# Altium footprint library 7Robot.PcbLib: 36 footprints (part 3 of 3)
Each footprint in its own frame and in the unit in brackets; x right, y up, seen from the top. Pads: shape width x height; smd on the part's side, far side on the other; paste and mask are expansions set on the pad; w line width, h text height; cw(c..) or ccw(c..) is an arc to the next point about the centre after c.
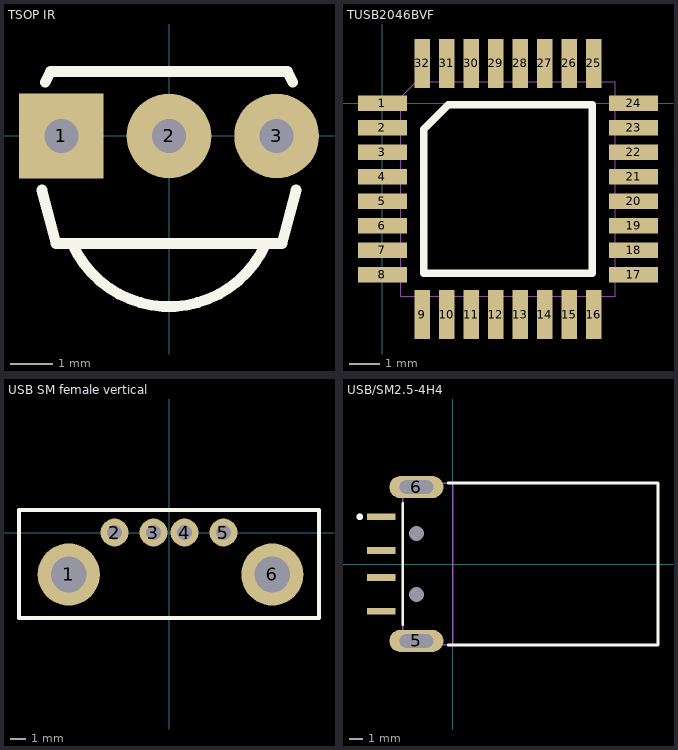
[diagram p2: the footprints below, top view; thin cyan lines are the x and y axes]

## TSOP IR [mm] "TSOP IR Receiver, Vishay"
height 10
pads (3):
  rect 2x2 hole 0.8: 1(-2.54,0)
  round 2 hole 0.8: 2(0,0) 3(2.54,0)
Top Overlay:
  lines w0.254: -3,-1.276 -2.667,-2.54 2.667,-2.54 3,-1.276 ; -2.921,1.27 -2.794,1.524 2.794,1.524 2.921,1.27 ; -2.286,-2.54 ccw(c0,-1.524) 2.286,-2.54
3D body: height 8.45, standoff -2.5, extent -3,-4.076 3,1.524

## TUSB2046BVF [mil] "TI 4-Port USB Hub"
height 55.12
pads (32):
  rect 63x19.7 smd: 1(0,0) 2(0,-31.5) 3(0,-63) 4(0,-94.5) 5(0,-125.9) 6(0,-157.4) 7(0,-188.9) 8(0,-220.4) 17(322.8,-220.4) 18(322.8,-188.9) 19(322.8,-157.4) 20(322.8,-125.9) 21(322.8,-94.5) 22(322.8,-63) 23(322.8,-31.5) 24(322.8,0)
  rect 19.7x63 smd: 9(51.2,-271.6) 10(82.7,-271.6) 11(114.2,-271.6) 12(145.7,-271.6) 13(177.1,-271.6) 14(208.6,-271.6) 15(240.1,-271.6) 16(271.6,-271.6) 25(271.6,51.2) 26(240.1,51.2) 27(208.6,51.2) 28(177.1,51.2) 29(145.7,51.2) 30(114.2,51.2) 31(82.7,51.2) 32(51.2,51.2)
Top Overlay:
  lines w10: 53.1,-218.5 53.1,-33.5 84.7,-1.9 269.7,-1.9 269.7,-218.5 53.1,-218.5
Mechanical 1:
  lines w0.4: 23.6,-248 23.6,7.9 43.3,27.6 299.2,27.6 299.2,-248 23.6,-248
3D body: height 59.06, standoff 0.79, extent -15.76,-287.36 338.56,66.96

## USB SM female vertical [mm] "USB SM female vertical"
height 13.6
pads (6):
  round 4 hole 2.3: 1(-6.45,-2.7) 6(6.65,-2.7)
  round 1.8 hole 0.95: 2(-3.5,0) 3(-1,0) 4(1,0) 5(3.5,0)
Top Overlay:
  lines w0.254: -9.65,-5.5 9.65,-5.5 9.65,1.45 -9.65,1.45 -9.65,-5.5
3D body: height 13.2, standoff -4.6, extent -7.992,-4.99 7.992,2.65

## USB/SM2.5-4H4 [mm] "Connector; USB1.1, Type A, SM; 4 Position; Right Angle"
height 4.5
pads (8):
  rect 2.1x0.5 smd: 1(-5.3,3.5) 2(-5.3,1) 3(-5.3,-1) 4(-5.3,-3.5)
  oval 4x1.65 hole 1 slot 2.5 at 0 deg: 5(-2.7,-5.7) 6(-2.7,5.7)
  round 0.8 hole 1.1 unplated: MH1(-2.7,-2.25) MH2(-2.7,2.25)
Top Overlay:
  circle w0.25: c-6.9,3.5 r0.125
  lines w0.2: -3.7,-4.475 -3.7,4.475 ; -0.33,-6 15.2,-6 15.2,6 -0.33,6
Mechanical 1:
  lines w0.1: 0,-6 0,6
  text "PCB Edge" at 0.473,-5.173 h0.25
Mechanical 13:
  lines w0.1: -3.7,-6 -3.7,6 15.2,6 15.2,-6 -3.7,-6
3D body: height 4.5, standoff 0, extent -3.5,-6 14.83,6